# Altium footprint library SOT323-6L.PcbLib: 1 footprints
Each footprint in its own frame and in the unit in brackets; x right, y up, seen from the top. Pads: shape width x height; smd on the part's side, far side on the other; paste and mask are expansions set on the pad; w line width, h text height; cw(c..) or ccw(c..) is an arc to the next point about the centre after c.
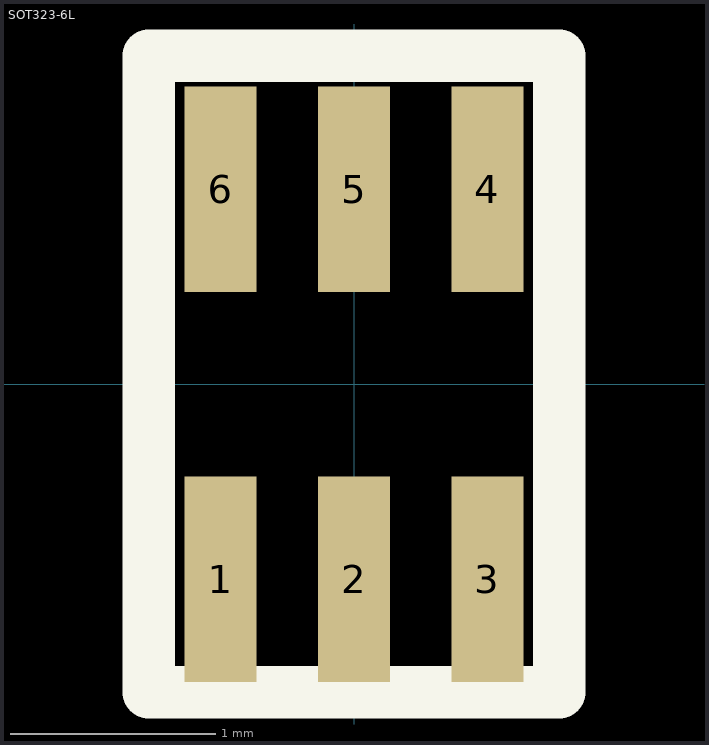
[diagram p0: the footprint, top view; thin cyan lines are the x and y axes]

## SOT323-6L [mm] "ESDA6V1-5W6"
pads (6):
  rect 0.35x1 smd: 1(-0.65,-0.95) 2(0,-0.95) 3(0.65,-0.95) 4(0.65,0.95) 5(0,0.95) 6(-0.65,0.95)
Top Overlay:
  lines w0.254: -1,-1.5 -1,1.6 1,1.6 1,-1.5 -1,-1.5
3D body "SOT363.STEP": height 0.96, standoff -0.03, extent -1,-1.05 1,1.05